# EAGLE library part MPU9250 (library axios_components)
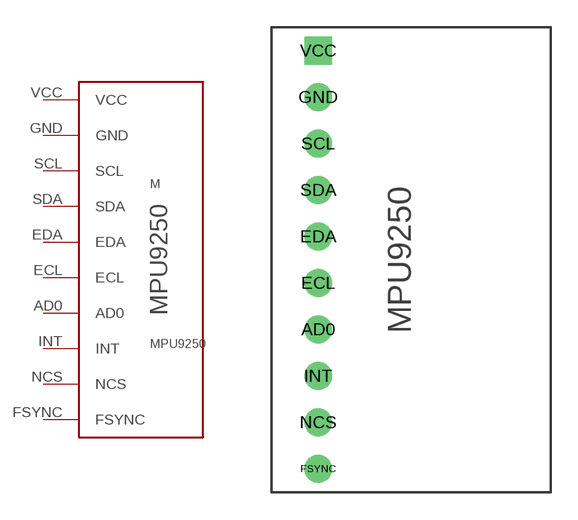
[diagram p5: symbol with the pads of MPU9250; footprint MPU9250]

Designator prefix M

## MPU9250  [MPU9250]
AD0  AD0
ECL  ECL
EDA  EDA
FSYNC  FSYNC
GND  GND
INT  INT
NCS  NCS
SCL  SCL
SDA  SDA
VCC  VCC

## Footprint MPU9250 (pad centres in mm)
drill 1: AD0 0,-3.81; ECL 0,-1.27; EDA 0,1.27; FSYNC 0,-11.43; GND 0,8.89; INT 0,-6.35; NCS 0,-8.89; SCL 0,6.35; SDA 0,3.81
drill 1 square: VCC 0,11.43